# EAGLE library part 74ALVC04 (library keves)
IC HEX INVERTER 14-SOIC
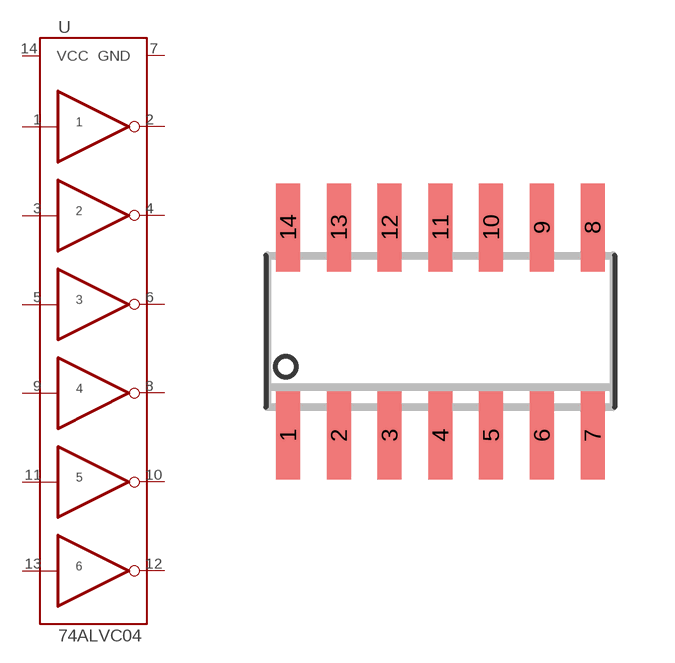
[diagram p17: symbol with the pads of SOIC14; footprint SOIC14]

Designator prefix -

## 74ALVC04  [SOIC14]
1  I$1  in
2  O$1  out
3  I$2  in
4  O$2  out
5  I$3  in
6  O$3  out
7  GND
8  O$4  out
9  I$4  in
10  O$5  out
11  I$5  in
12  O$6  out
13  I$6  in
14  VCC

## Footprint SOIC14 (pad centres in mm)
smd 0.6 x 2.2: 1 -3.81,-2.6; 2 -2.54,-2.6; 3 -1.27,-2.6; 4 0,-2.6; 5 1.27,-2.6; 6 2.54,-2.6; 7 3.81,-2.6; 8 3.81,2.6; 9 2.54,2.6; 10 1.27,2.6; 11 0,2.6; 12 -1.27,2.6; 13 -2.54,2.6; 14 -3.81,2.6